# Altium schematic symbol library FT231XQ.SchLib: 1 symbol
Pins are listed as number, name and electrical type; pins without a type are passive.

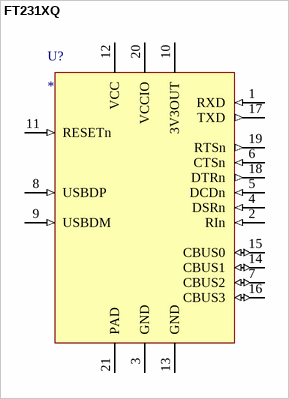
[diagram p0: symbol FT231XQ]

## FT231XQ
designator U?
USB to Full Handshake UART
pins: 1 RXD (in), 2 RIn (in), 3 GND (power), 4 DSRn (in), 5 DCDn (in), 6 CTSn (in), 7 CBUS2 (io), 8 USBDP (in), 9 USBDM (in), 10 3V3OUT (power), 11 RESETn (in), 12 VCC (power), 13 GND (power), 14 CBUS1 (io), 15 CBUS0 (io), 16 CBUS3 (io), 17 TXD (out), 18 DTRn (out), 19 RTSn (out), 20 VCCIO (power), 21 PAD (power)